# Altium footprint library Components GOST.PcbLib: 34 footprints (part 1 of 3)
Each footprint in its own frame and in the unit in brackets; x right, y up, seen from the top. Pads: shape width x height; smd on the part's side, far side on the other; paste and mask are expansions set on the pad; w line width, h text height; cw(c..) or ccw(c..) is an arc to the next point about the centre after c.
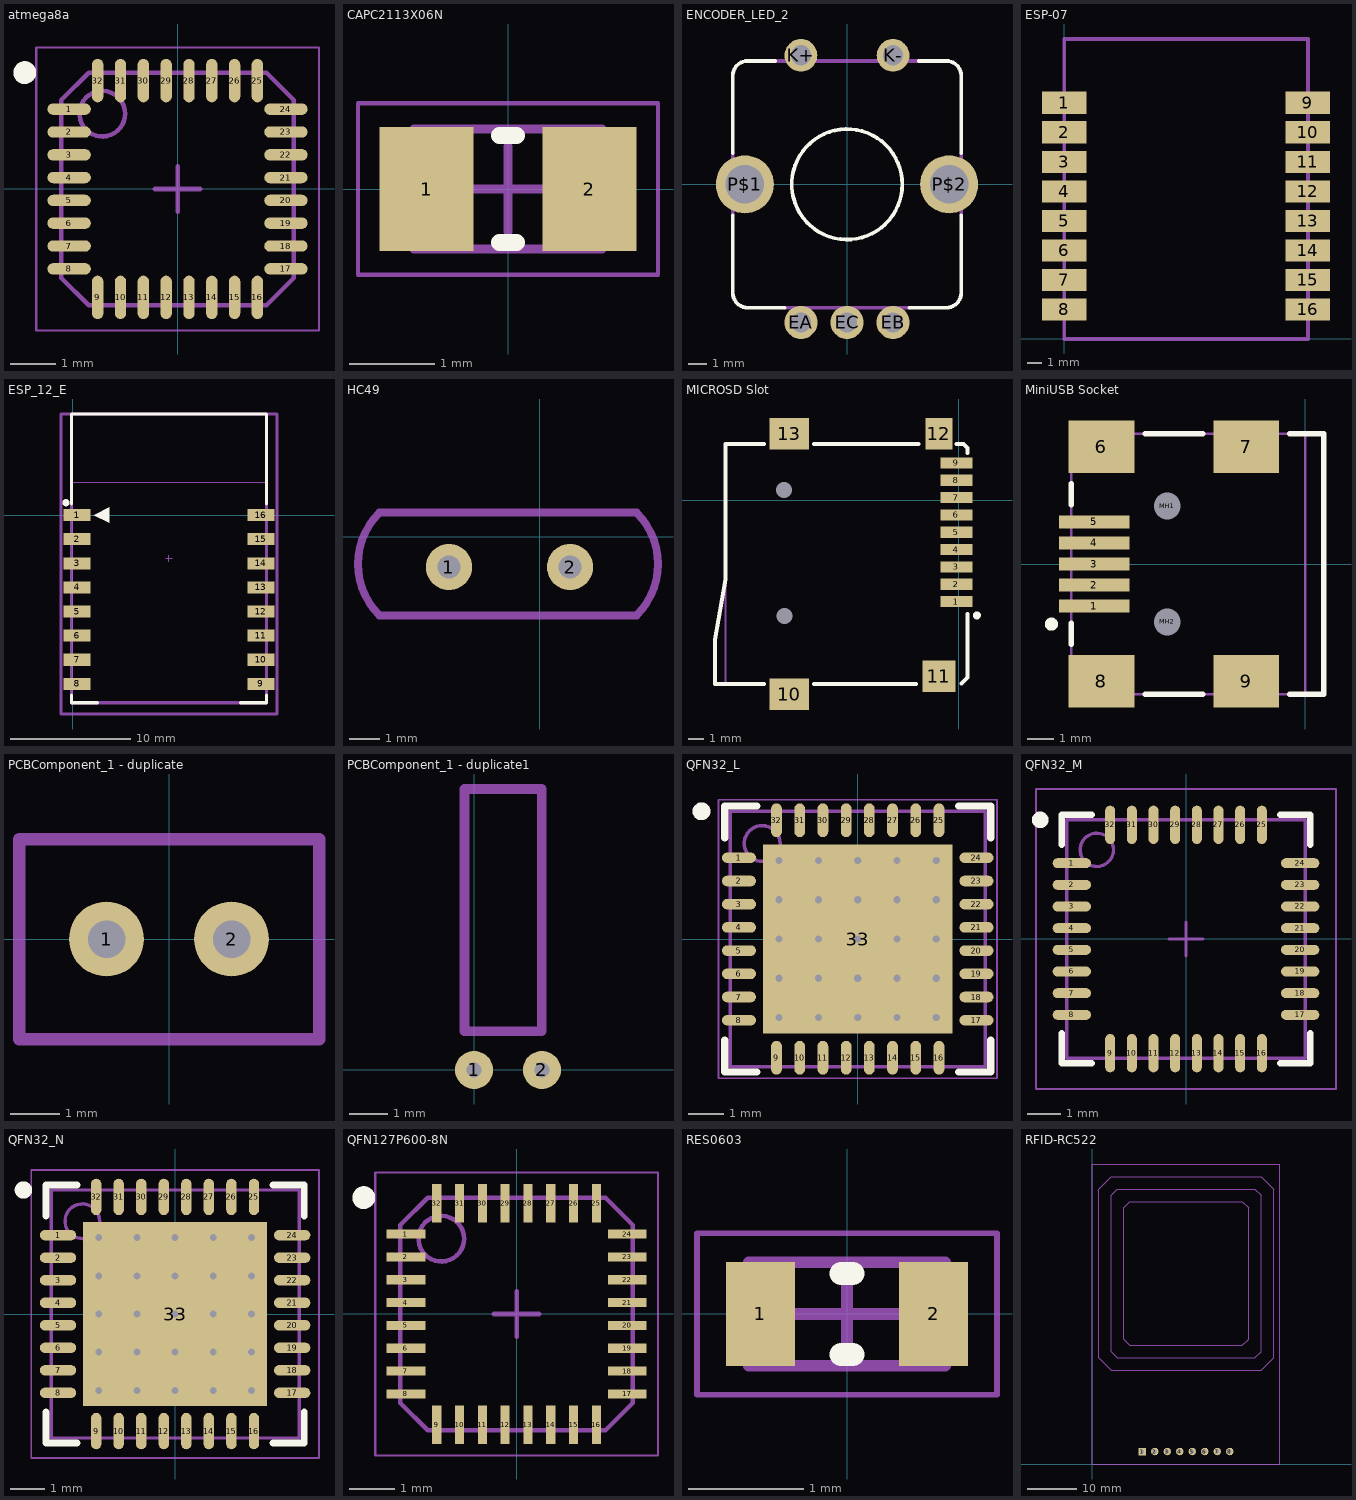
[diagram p0: the footprints below, top view; thin cyan lines are the x and y axes]

## atmega8a [mm] "QFN, 32-Leads, Body 5,00x5,00mm, Pitch 0,50mm, Thermal Pad 3,10x3,10mm, IPC Medium Density"
height 1
pads (32):
  oval 0.95x0.25 smd: 1(-2.375,1.75) 2(-2.375,1.25) 3(-2.375,0.75) 4(-2.375,0.25) 5(-2.375,-0.25) 6(-2.375,-0.75) 7(-2.375,-1.25) 8(-2.375,-1.75) 17(2.375,-1.75) 18(2.375,-1.25) 19(2.375,-0.75) 20(2.375,-0.25) 21(2.375,0.25) 22(2.375,0.75) 23(2.375,1.25) 24(2.375,1.75)
  oval 0.25x0.95 smd: 9(-1.75,-2.375) 10(-1.25,-2.375) 11(-0.75,-2.375) 12(-0.25,-2.375) 13(0.25,-2.375) 14(0.75,-2.375) 15(1.25,-2.375) 16(1.75,-2.375) 25(1.75,2.375) 26(1.25,2.375) 27(0.75,2.375) 28(0.25,2.375) 29(-0.25,2.375) 30(-0.75,2.375) 31(-1.25,2.375) 32(-1.75,2.375)
Top Overlay:
  circle w0.25: c-3.35,2.55 r0.125
Mechanical 13:
  circle w0.1: c-1.65,1.65 r0.5
  lines w0.1: -2.55,-1.95 -2.55,1.95 -1.95,2.55 1.95,2.55 2.55,1.95 2.55,-1.95 1.95,-2.55 -1.95,-2.55 -2.55,-1.95
Mechanical 15:
  lines w0.05: -3.1,-3.1 3.1,-3.1 3.1,3.1 -3.1,3.1 -3.1,-3.1
  lines w0.1: -0.5,0 0.5,0 ; 0,-0.5 0,0.5
3D body: height 1, standoff 0.05, extent -2.55,-2.55 2.55,2.55

## CAPC2113X06N [mm] "Chip Capacitor, 2-Leads, Body 2,10x1,30mm, IPC Medium Density"
height 0.6
pads (2):
  rect 1.1x1.45 smd: 1(-0.95,0) 2(0.95,0)
Top Overlay:
  lines w0.2: -0.1,-0.625 0.1,-0.625 ; -0.1,0.625 0.1,0.625
Mechanical 13:
  lines w0.1: -1.1,-0.7 -1.1,0.7 1.1,0.7 1.1,-0.7 -1.1,-0.7
Mechanical 15:
  lines w0.05: -1.75,-1 -1.75,1 1.75,1 1.75,-1 -1.75,-1
  lines w0.1: -0.5,0 0.5,0 ; 0,-0.5 0,0.5
3D body: height 0.6, standoff 0, extent -0.7,-0.7 0.7,0.7
3D body: height 0.6, standoff 0, extent -1.1,-0.7 -0.7,0.7
3D body: height 0.6, standoff 0, extent 0.7,-0.7 1.1,0.7

## ENCODER_LED_2 [mil]
pads (7):
  round 70.87 hole 43.31: EA(-98.43,-295.28) EB(98.43,-295.28) EC(0,-295.28)
  round 70 hole 43.31: K+(-98.43,275.59) K-(98.43,275.59)
  round 124.02 hole 82.68: P$1(-218.5,0) P$2(218.5,0)
Top Overlay:
  circle w8: c0,0 r118.11
  lines w8: -244.09,-66.93 -244.09,-232.04 ccw(c-212.35,-232.04) -212.35,-263.78 -133.86,-263.78 ; -244.09,66.93 -244.09,232.04 cw(c-212.35,232.04) -212.35,263.78 -153.54,263.78 ; 133.86,-263.78 212.35,-263.78 ccw(c212.35,-232.04) 244.09,-232.04 244.09,-66.93 ; 153.54,263.78 212.35,263.78 cw(c212.35,232.04) 244.09,232.04 244.09,66.93
Mechanical 16:
  lines w8: -244.09,-66.93 -244.09,66.93 ; -153.54,263.78 153.54,263.78 ; -133.86,-263.78 133.86,-263.78 ; 244.09,-66.93 244.09,66.93

## ESP-07 [mm] "ESP8266 ESP-07 Module"
pads (16):
  rect 3x1.5 smd: 1(0,16) 2(0,14) 3(0,12) 4(0,10) 5(0,8) 6(0,6) 7(0,4) 8(0,2) 9(16.5,16) 10(16.5,14) 11(16.5,12) 12(16.5,10) 13(16.5,8) 14(16.5,6) 15(16.5,4) 16(16.5,2)
Mechanical 1:
  lines w0.254: 0,0 0,20.32 16.51,20.32 16.51,0 0,0

## ESP_12_E [mm] "ESP-12 Wi-Fi Module by AI-Thinker"
height 3.2
pads (16):
  rect 2.25x1 smd: 1(0.375,0) 2(0.375,-2) 3(0.375,-4) 4(0.375,-6) 5(0.375,-8) 6(0.375,-10) 7(0.375,-12) 8(0.375,-14) 9(15.625,-14) 10(15.625,-12) 11(15.625,-10) 12(15.625,-8) 13(15.625,-6) 14(15.625,-4) 15(15.625,-2) 16(15.625,0)
Top Overlay:
  circle w0.3: c-0.55,1.025 r0.15
  region: 1.77,0 3.04,-0.635 3.04,0.635
  lines w0.254: -0.084,-14.916 -0.084,-15.568 2.068,-15.568 ; -0.084,0.916 -0.084,8.371 16.084,8.371 16.084,0.916 ; 13.932,-15.568 16.084,-15.568 16.084,-14.916
Mechanical 13:
  lines w0.051: -0.127,2.727 16.129,2.727 16.129,8.382 -0.127,8.382 -0.127,2.727
  lines w0.254: -0.084,-15.568 -0.084,8.371 16.084,8.371 16.084,-15.568 -0.084,-15.568
  text "ANTENNA AREA" at 0.127,7.874 h0.25
  text "CUTOUT POLYGON" at 0.127,7.366 h0.25
Mechanical 15:
  lines w0.1: 7.746,-3.598 8.254,-3.598 ; 8,-3.852 8,-3.344
  lines w0.254: -0.975,-16.5 16.975,-16.5 16.975,8.371 -0.975,8.371 -0.975,-16.5
3D body: height 2.75, standoff 0.04, extent 0.001,-15.491 16.001,8.509

## HC49 [mil]
pads (2):
  round 60 hole 30: 1(-118.11,-39.37) 2(39.37,-39.37)
Mechanical 13:
  lines w10: -208.66,-102.36 cw(c-141.73,-35.43) -208.66,31.5 125.98,31.5 cw(c59.06,-35.43) 125.98,-102.36 -39.37,-102.36 -208.66,-102.36

## MICROSD Slot [mil] "MicroSD Card Socket"
height 67
pads (15):
  rect 80x28 smd: 1(-6,-253.47) 2(-6,-210.16) 3(-6,-166.85) 4(-6,-123.55) 5(-6,-80.24) 6(-6,-36.93) 7(-6,6.38) 8(-6,49.68) 9(-6,92.99)
  rect 98.43x78.74 smd: 10(-424.01,-485) 13(-424.01,166)
  rect 83x78.74 smd: 11(-50,-439.8)
  rect 67x78.74 smd: 12(-50,166)
  round 23.62 hole 40 unplated: MH1(-436.89,25) MH2(-436,-289.96)
Top Overlay:
  circle w9.84: c45,-288 r4.92
  lines w10: -487,-459 -609,-459 -609,-347.81 -583,-198 -583,140 -487,140 ; -362,-459 -107,-459 ; -362,140 -101,140 ; -6,140 3,140 11,140 21,130 21,118 ; 6,-458 21,-443 21,-284
Mechanical 1:
  lines w3.94: -583,-459 -583,140.88
  text "PCB Edge" at -576,-375 h9.84
3D body: height 67, standoff 0, extent -611,-460 21,140

## MiniUSB Socket [mm] "Connector; USB2.0, Type B, SM; 5 Position; Right Angle"
height 3.9
pads (11):
  rect 2.667x0.5 smd: 1(-8.026,-1.6) 2(-8.026,-0.8) 3(-8.026,0) 4(-8.026,0.8) 5(-8.026,1.6)
  rect 2.5x2 smd: 6(-7.75,4.45) 7(-2.25,4.45) 8(-7.75,-4.45) 9(-2.25,-4.45)
  round 0.6 hole 1.016 unplated: MH1(-5.25,2.2) MH2(-5.25,-2.2)
Top Overlay:
  circle w0.25: c-9.652,-2.286 r0.125
  lines w0.2: -8.9,-3.05 -8.9,-2.25 ; -8.9,2.25 -8.9,3.05 ; -6.1,-4.95 -3.9,-4.95 ; -6.1,4.95 -3.9,4.95 ; -0.6,-4.95 0.7,-4.95 0.7,4.95 -0.6,4.95
Mechanical 1:
  lines w0.1: 0,-4.95 0,4.95
  text "PCB Edge" at 0.432,-4.036 h0.25
Mechanical 13:
  lines w0.1: -8.9,-4.95 0.7,-4.95 0.7,4.95 -8.9,4.95 -8.9,-4.95
3D body: height 3.9, standoff 0, extent -8.9,-4.95 0.7,4.95

## PCBComponent_1 - duplicate [mil]
pads (2):
  round 60 hole 30: 1(-50,0) 2(50,0)
Mechanical 1:
  lines w10: -120,-80 -120,80 120,80 120,-80 -120,-80

## PCBComponent_1 - duplicate1 [mm]
pads (2):
  round 1 hole 0.4: 1(0,0) 2(1.778,0)
Mechanical 1:
  lines w0.254: -0.254,1.016 -0.254,7.366 1.778,7.366 1.778,1.016 -0.254,1.016

## QFN32_L [mm] "QFN, 32-Leads, Body 7x7mm, Pitch 0.65mm, Thermal Pad 5.3x5.3mm, IPC High Density"
height 1
pads (33):
  oval 0.95x0.3 smd: 1(-3.325,2.275) 2(-3.325,1.625) 3(-3.325,0.975) 4(-3.325,0.325) 5(-3.325,-0.325) 6(-3.325,-0.975) 7(-3.325,-1.625) 8(-3.325,-2.275) 17(3.325,-2.275) 18(3.325,-1.625) 19(3.325,-0.975) 20(3.325,-0.325) 21(3.325,0.325) 22(3.325,0.975) 23(3.325,1.625) 24(3.325,2.275)
  oval 0.3x0.95 smd: 9(-2.275,-3.325) 10(-1.625,-3.325) 11(-0.975,-3.325) 12(-0.325,-3.325) 13(0.325,-3.325) 14(0.975,-3.325) 15(1.625,-3.325) 16(2.275,-3.325) 25(2.275,3.325) 26(1.625,3.325) 27(0.975,3.325) 28(0.325,3.325) 29(-0.325,3.325) 30(-0.975,3.325) 31(-1.625,3.325) 32(-2.275,3.325)
  rect 5.3x5.3 smd: 33(0,0)
via 2.2,-2.2 diameter 0.5 hole 0.2
via 1.1,-2.2 diameter 0.5 hole 0.2
via 0,-2.2 diameter 0.5 hole 0.2
via -1.1,-2.2 diameter 0.5 hole 0.2
via -2.2,-2.2 diameter 0.5 hole 0.2
via 2.2,-1.1 diameter 0.5 hole 0.2
via 1.1,-1.1 diameter 0.5 hole 0.2
via 0,-1.1 diameter 0.5 hole 0.2
via -1.1,-1.1 diameter 0.5 hole 0.2
via -2.2,-1.1 diameter 0.5 hole 0.2
via 2.2,0 diameter 0.5 hole 0.2
via 1.1,0 diameter 0.5 hole 0.2
via 0,0 diameter 0.5 hole 0.2
via -1.1,0 diameter 0.5 hole 0.2
via -2.2,0 diameter 0.5 hole 0.2
via 2.2,1.1 diameter 0.5 hole 0.2
via 1.1,1.1 diameter 0.5 hole 0.2
via 0,1.1 diameter 0.5 hole 0.2
via -1.1,1.1 diameter 0.5 hole 0.2
via -2.2,1.1 diameter 0.5 hole 0.2
via 2.2,2.2 diameter 0.5 hole 0.2
via 1.1,2.2 diameter 0.5 hole 0.2
via 0,2.2 diameter 0.5 hole 0.2
via -1.1,2.2 diameter 0.5 hole 0.2
via -2.2,2.2 diameter 0.5 hole 0.2
Top Overlay:
  circle w0.25: c-4.375,3.575 r0.125
  lines w0.2: -3.725,-2.825 -3.725,-3.725 -2.825,-3.725 ; -3.725,2.825 -3.725,3.725 -2.825,3.725 ; 2.825,-3.725 3.725,-3.725 3.725,-2.825 ; 2.825,3.725 3.725,3.725 3.725,2.825
Mechanical 13:
  circle w0.1: c-2.675,2.675 r0.5
  lines w0.1: -3.575,-3.575 3.575,-3.575 3.575,3.575 -3.575,3.575 -3.575,-3.575
Mechanical 15:
  lines w0.05: -3.9,-3.9 3.9,-3.9 3.9,3.9 -3.9,3.9 -3.9,-3.9
  lines w0.1: -0.5,0 0.5,0 ; 0,-0.5 0,0.5
3D body: height 1, standoff 0, extent -3.575,-3.575 3.575,3.575

## QFN32_M [mm] "QFN, 32-Leads, Body 7x7mm, Pitch 0.65mm, Thermal Pad 5.3x5.3mm, IPC Low Density"
height 1
pads (32):
  oval 1.15x0.3 smd: 1(-3.425,2.275) 2(-3.425,1.625) 3(-3.425,0.975) 4(-3.425,0.325) 5(-3.425,-0.325) 6(-3.425,-0.975) 7(-3.425,-1.625) 8(-3.425,-2.275) 17(3.425,-2.275) 18(3.425,-1.625) 19(3.425,-0.975) 20(3.425,-0.325) 21(3.425,0.325) 22(3.425,0.975) 23(3.425,1.625) 24(3.425,2.275)
  oval 0.3x1.15 smd: 9(-2.275,-3.425) 10(-1.625,-3.425) 11(-0.975,-3.425) 12(-0.325,-3.425) 13(0.325,-3.425) 14(0.975,-3.425) 15(1.625,-3.425) 16(2.275,-3.425) 25(2.275,3.425) 26(1.625,3.425) 27(0.975,3.425) 28(0.325,3.425) 29(-0.325,3.425) 30(-0.975,3.425) 31(-1.625,3.425) 32(-2.275,3.425)
Top Overlay:
  circle w0.25: c-4.375,3.575 r0.125
  lines w0.2: -3.725,-2.825 -3.725,-3.725 -2.825,-3.725 ; -3.725,2.825 -3.725,3.725 -2.825,3.725 ; 2.825,-3.725 3.725,-3.725 3.725,-2.825 ; 2.825,3.725 3.725,3.725 3.725,2.825
Mechanical 13:
  circle w0.1: c-2.675,2.675 r0.5
  lines w0.1: -3.575,-3.575 -3.575,3.575 3.575,3.575 3.575,-3.575 -3.575,-3.575
Mechanical 15:
  lines w0.05: -4.5,-4.5 -4.5,4.5 4.5,4.5 4.5,-4.5 -4.5,-4.5
  lines w0.1: -0.5,0 0.5,0 ; 0,-0.5 0,0.5
3D body: height 1, standoff 0, extent -3.575,-3.575 3.575,3.575

## QFN32_N [mm] "QFN, 32-Leads, Body 7x7mm, Pitch 0.65mm, Thermal Pad 5.3x5.3mm, IPC Medium Density"
height 1
pads (33):
  oval 1.05x0.3 smd: 1(-3.375,2.275) 2(-3.375,1.625) 3(-3.375,0.975) 4(-3.375,0.325) 5(-3.375,-0.325) 6(-3.375,-0.975) 7(-3.375,-1.625) 8(-3.375,-2.275) 17(3.375,-2.275) 18(3.375,-1.625) 19(3.375,-0.975) 20(3.375,-0.325) 21(3.375,0.325) 22(3.375,0.975) 23(3.375,1.625) 24(3.375,2.275)
  oval 0.3x1.05 smd: 9(-2.275,-3.375) 10(-1.625,-3.375) 11(-0.975,-3.375) 12(-0.325,-3.375) 13(0.325,-3.375) 14(0.975,-3.375) 15(1.625,-3.375) 16(2.275,-3.375) 25(2.275,3.375) 26(1.625,3.375) 27(0.975,3.375) 28(0.325,3.375) 29(-0.325,3.375) 30(-0.975,3.375) 31(-1.625,3.375) 32(-2.275,3.375)
  rect 5.3x5.3 smd: 33(0,0)
via -2.2,2.2 diameter 0.5 hole 0.2
via -1.1,2.2 diameter 0.5 hole 0.2
via 0,2.2 diameter 0.5 hole 0.2
via 1.1,2.2 diameter 0.5 hole 0.2
via 2.2,2.2 diameter 0.5 hole 0.2
via -2.2,1.1 diameter 0.5 hole 0.2
via -1.1,1.1 diameter 0.5 hole 0.2
via 0,1.1 diameter 0.5 hole 0.2
via 1.1,1.1 diameter 0.5 hole 0.2
via 2.2,1.1 diameter 0.5 hole 0.2
via -2.2,0 diameter 0.5 hole 0.2
via -1.1,0 diameter 0.5 hole 0.2
via 0,0 diameter 0.5 hole 0.2
via 1.1,0 diameter 0.5 hole 0.2
via 2.2,0 diameter 0.5 hole 0.2
via -2.2,-1.1 diameter 0.5 hole 0.2
via -1.1,-1.1 diameter 0.5 hole 0.2
via 0,-1.1 diameter 0.5 hole 0.2
via 1.1,-1.1 diameter 0.5 hole 0.2
via 2.2,-1.1 diameter 0.5 hole 0.2
via -2.2,-2.2 diameter 0.5 hole 0.2
via -1.1,-2.2 diameter 0.5 hole 0.2
via 0,-2.2 diameter 0.5 hole 0.2
via 1.1,-2.2 diameter 0.5 hole 0.2
via 2.2,-2.2 diameter 0.5 hole 0.2
Top Overlay:
  circle w0.25: c-4.375,3.575 r0.125
  lines w0.2: -3.725,-2.825 -3.725,-3.725 -2.825,-3.725 ; -3.725,2.825 -3.725,3.725 -2.825,3.725 ; 2.825,-3.725 3.725,-3.725 3.725,-2.825 ; 2.825,3.725 3.725,3.725 3.725,2.825
Mechanical 13:
  circle w0.1: c-2.675,2.675 r0.5
  lines w0.1: -3.575,-3.575 -3.575,3.575 3.575,3.575 3.575,-3.575 -3.575,-3.575
Mechanical 15:
  lines w0.05: -4.15,-4.15 -4.15,4.15 4.15,4.15 4.15,-4.15 -4.15,-4.15
  lines w0.1: -0.5,0 0.5,0 ; 0,-0.5 0,0.5
3D body: height 1, standoff 0, extent -3.575,-3.575 3.575,3.575

## QFN127P600-8N [mm]
height 1
pads (32):
  rect 0.85x0.2 smd: 1(-2.425,1.75) 2(-2.425,1.25) 3(-2.425,0.75) 4(-2.425,0.25) 5(-2.425,-0.25) 6(-2.425,-0.75) 7(-2.425,-1.25) 8(-2.425,-1.75) 17(2.425,-1.75) 18(2.425,-1.25) 19(2.425,-0.75) 20(2.425,-0.25) 21(2.425,0.25) 22(2.425,0.75) 23(2.425,1.25) 24(2.425,1.75)
  rect 0.2x0.85 smd: 9(-1.75,-2.425) 10(-1.25,-2.425) 11(-0.75,-2.425) 12(-0.25,-2.425) 13(0.25,-2.425) 14(0.75,-2.425) 15(1.25,-2.425) 16(1.75,-2.425) 25(1.75,2.425) 26(1.25,2.425) 27(0.75,2.425) 28(0.25,2.425) 29(-0.25,2.425) 30(-0.75,2.425) 31(-1.25,2.425) 32(-1.75,2.425)
Top Overlay:
  circle w0.25: c-3.35,2.55 r0.125
Mechanical 13:
  circle w0.1: c-1.65,1.65 r0.5
  lines w0.1: -2.55,-1.95 -1.95,-2.55 1.95,-2.55 2.55,-1.95 2.55,1.95 1.95,2.55 -1.95,2.55 -2.55,1.95 -2.55,-1.95
Mechanical 15:
  lines w0.05: -3.1,-3.1 -3.1,3.1 3.1,3.1 3.1,-3.1 -3.1,-3.1
  lines w0.1: -0.5,0 0.5,0 ; 0,-0.5 0,0.5
3D body: height 1, standoff 0.05, extent -2.55,-2.55 2.55,2.55

## RES0603 [mm] "Chip Resistor, 2-Leads, Body 1,60x0,80mm, IPC Medium Density"
height 0.6
pads (2):
  rect 0.6x0.9 smd: 1(-0.75,0) 2(0.75,0)
Top Overlay:
  lines w0.2: -0.05,-0.35 0.05,-0.35 ; -0.05,0.35 0.05,0.35
Mechanical 13:
  lines w0.1: -0.85,-0.45 -0.85,0.45 0.85,0.45 0.85,-0.45 -0.85,-0.45
Mechanical 15:
  lines w0.05: -1.3,-0.7 -1.3,0.7 1.3,0.7 1.3,-0.7 -1.3,-0.7
  lines w0.1: -0.45,0 0.45,0 ; 0,-0.45 0,0.45
3D body: height 0.6, standoff 0, extent -0.65,-0.45 0.65,0.45
3D body: height 0.6, standoff 0, extent -0.85,-0.45 -0.65,0.45
3D body: height 0.6, standoff 0, extent 0.65,-0.45 0.85,0.45

## RFID-RC522 [mil] "NXP RFID Reader Module"
pads (8):
  rect 60x60 hole 30: 1(400,100)
  round 60 hole 30: 2(500,100) 3(600,100) 4(700,100) 5(800,100) 6(900,100) 7(1000,100) 8(1100,100)
Mechanical 1:
  lines w10: 400,0 1300,0 ; 0,0 0,2400 1500,2400 1500,0 0,0 ; 50,850 50,2200 150,2300 1350,2300 1450,2200 1450,1200 1450,850 1350,750 150,750 50,850 ; 150,900 200,850 1300,850 1350,900 1350,2150 1300,2200 200,2200 150,2150 150,2100 150,900 ; 250,1000 300,950 1200,950 1250,1000 1250,2050 1200,2100 300,2100 250,2050 250,1000
3D body: height 472.44, standoff 393.7, extent 0,0 1500,2400